# Altium footprint library SOT-23.PcbLib: 1 footprints
Each footprint in its own frame and in the unit in brackets; x right, y up, seen from the top. Pads: shape width x height; smd on the part's side, far side on the other; paste and mask are expansions set on the pad; w line width, h text height; cw(c..) or ccw(c..) is an arc to the next point about the centre after c.
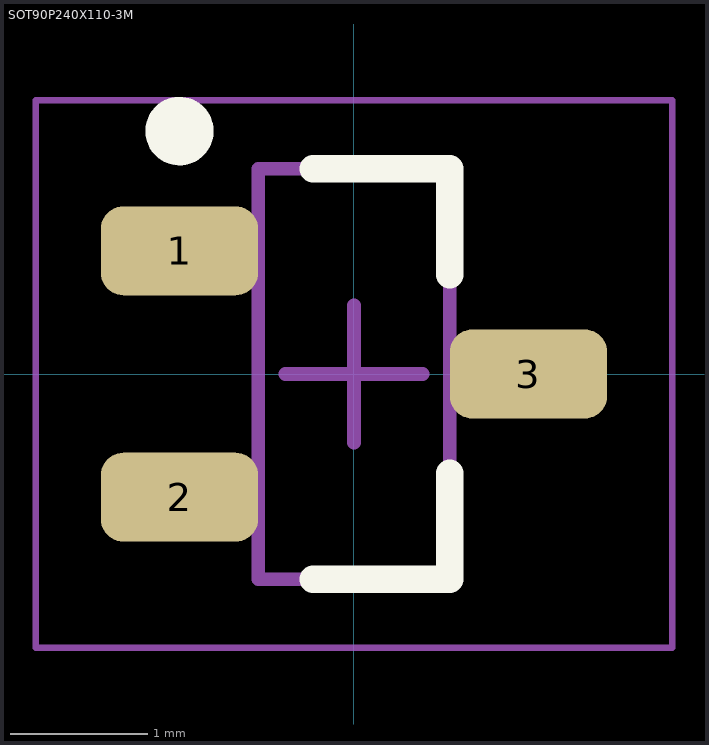
[diagram p0: the footprint, top view; thin cyan lines are the x and y axes]

## SOT90P240X110-3M [mm] "SOT23, 3-Leads, Body 2.90x2.40mm, Pitch 0.90mm, IPC Low Density"
height 1.1
pads (3):
  rrect50% 1.15x0.65 smd: 1(-1.275,0.9) 2(-1.275,-0.9) 3(1.275,0)
Top Overlay:
  circle w0.25: c-1.275,1.775 r0.125
  lines w0.2: -0.3,-1.5 0.7,-1.5 0.7,-0.725 ; -0.3,1.5 0.7,1.5 0.7,0.725
Top Assembly:
  lines w0.1: -0.7,-1.5 -0.7,1.5 0.7,1.5 0.7,-1.5 -0.7,-1.5
  text ".Comment" at -2.29,-3.465 h1
Top Courtyard:
  lines w0.05: -2.325,-2 -2.325,2 2.325,2 2.325,-2 -2.325,-2
  lines w0.1: -0.5,0 0.5,0 ; 0,-0.5 0,0.5
3D body "SOT90P240X110-3M.step": height 1.1, standoff 0, extent -1.25,-1.5 1.25,1.5